# Altium schematic symbol library EL-sense_RGBandGestureSensors.SchLib: 2 symbols
Pins are listed as number, name and electrical type; pins without a type are passive.

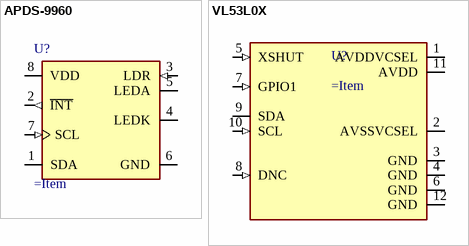
[diagram p0: symbols APDS-9960 to VL53L0X]

## APDS-9960
designator U?
pins: 1 SDA (io), 2 ~{INT} (out), 3 LDR (in), 4 LEDK, 5 LEDA, 6 GND (power), 7 SCL (in), 8 VDD (power)

## VL53L0X
designator U?
pins: 1 AVDDVCSEL (power), 2 AVSSVCSEL (power), 3 GND (power), 4 GND (power), 5 XSHUT (in), 6 GND (power), 7 GPIO1 (in), 8 DNC (in), 9 SDA (io), 10 SCL (in), 11 AVDD (power), 12 GND (power)